# EAGLE library part HCNR200-300E (library HCNR200-300E)
Optocoupler AC/DC i/p DC o/p PDIP8 W SMD Avago HCNR200-300E DC Input Photodiode Output Optocoupler, Surface Mount, 8-Pin PDIP-W Source: Datasheet <https://docs.broadcom.com/docs/AV02-0886EN>
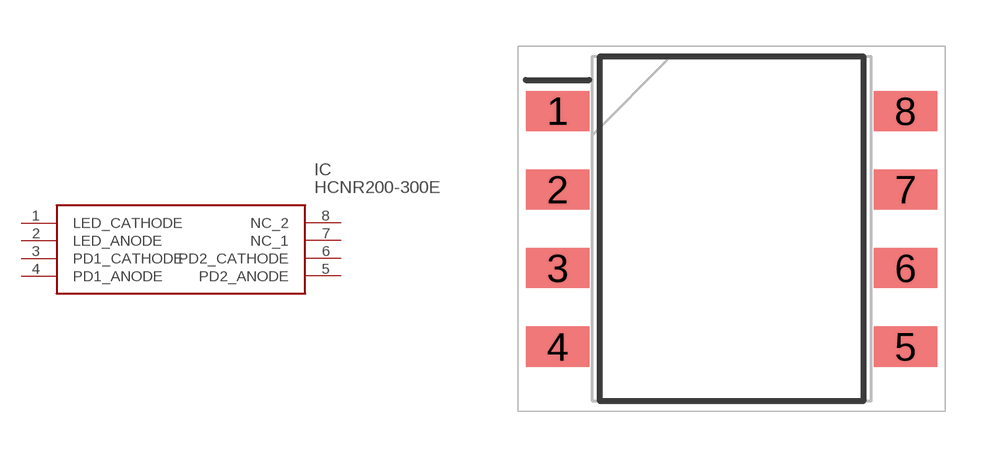
[diagram p0: symbol with the pads of SOP254P1230X400-8N; footprint SOP254P1230X400-8N]

Designator prefix IC

## HCNR200-300E (Description: Optocoupler AC/DC i/p DC o/p PDIP8 W SMD Avago HCNR200-300E DC Input Photodiode Output Optocoupler, Surface Mount, 8-Pin PDIP-W; Height: 4mm; Manufacturer_Name: Avago Technologies; Manufacturer_Part_Number: HCNR200-300E; Mouser_Part_Number: 630-HCNR200-300E; Mouser_Price-Stock: https://www.mouser.com/Search/Refine.aspx?Keyword=630-HCNR200-300E; RS_Part_Number: 6935264P; RS_Price-Stock: http://uk.rs-online.com/web/p/products/6935264P)  [SOP254P1230X400-8N]
1  LED_CATHODE
2  LED_ANODE
3  PD1_CATHODE
4  PD1_ANODE
5  PD2_ANODE
6  PD2_CATHODE
7  NC_1
8  NC_2

## Footprint SOP254P1230X400-8N (pad centres in mm)
Gull Wing Surface Mount Option #300
smd 2.05 x 1.3: 1 -5.625,3.81; 2 -5.625,1.27; 3 -5.625,-1.27; 4 -5.625,-3.81; 5 5.625,-3.81; 6 5.625,-1.27; 7 5.625,1.27; 8 5.625,3.81